# Altium schematic symbol library C2220C226K3RAC7800.SchLib: 2 symbols
Pins are listed as number, name and electrical type; pins without a type are passive.

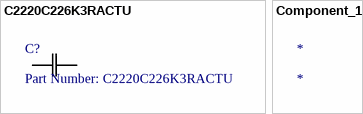
[diagram p0: symbols C2220C226K3RACTU to Component_1]

## C2220C226K3RACTU
designator C?, comment Part Number: C2220C226K3RACTU
No Description Available; Vendor: Kemet; Built_By: EMA_UL_Team; Type: DEV; Manufacturer_Part_Number: C2220C226K3RACTU; Copyright: Copyright (C) 2018 Accelerated Designs. All rights reserved; RefDes: RefDes; Value: Value
footprint C2220
pins: 1, 2

## Component_1
designator *